# Altium schematic symbol library SCH - MCU - STM32 - ST MICROELECTRONICS STM32L051R(6-8)TX LQFP64.SchLib: 1 symbol
Pins are listed as number, name and electrical type; pins without a type are passive.

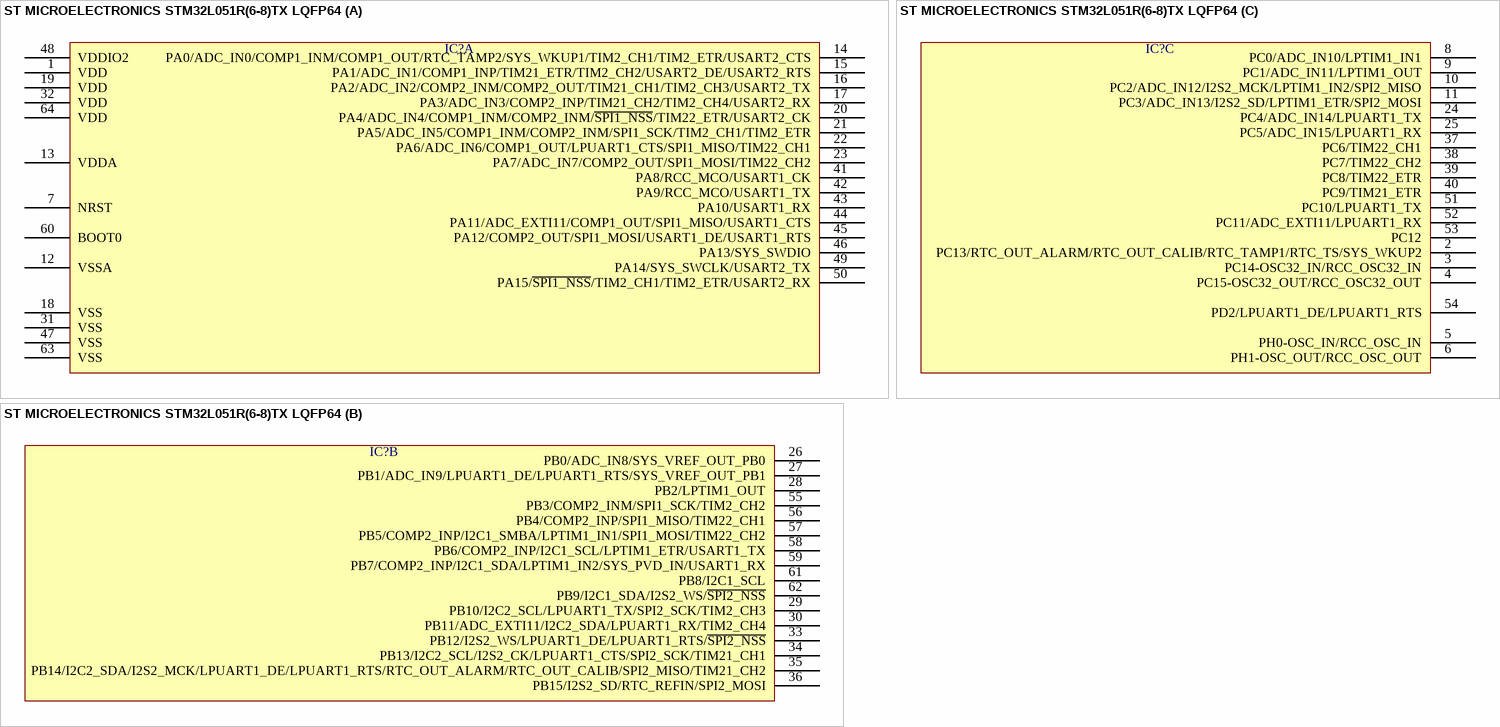
[diagram p0: symbol ST MICROELECTRONICS STM32L051R(6-8)TX LQFP64]

## ST MICROELECTRONICS STM32L051R(6-8)TX LQFP64
designator IC?  (value not drawn)
part A pins: 1 VDD, 7 NRST, 12 VSSA, 13 VDDA, 14 PA0/ADC_IN0/COMP1_INM/COMP1_OUT/RTC_TAMP2/SYS_WKUP1/TIM2_CH1/TIM2_ETR/USART2_CTS, 15 PA1/ADC_IN1/COMP1_INP/TIM21_ETR/TIM2_CH2/USART2_DE/USART2_RTS, 16 PA2/ADC_IN2/COMP2_INM/COMP2_OUT/TIM21_CH1/TIM2_CH3/USART2_TX, 17 PA3/ADC_IN3/COMP2_INP/TIM21_CH2/TIM2_CH4/USART2_RX, 18 VSS, 19 VDD, 20 PA4/ADC_IN4/COMP1_INM/COMP2_INM/~{SPI1_NSS}/TIM22_ETR/USART2_CK, 21 PA5/ADC_IN5/COMP1_INM/COMP2_INM/SPI1_SCK/TIM2_CH1/TIM2_ETR, 22 PA6/ADC_IN6/COMP1_OUT/LPUART1_CTS/SPI1_MISO/TIM22_CH1, 23 PA7/ADC_IN7/COMP2_OUT/SPI1_MOSI/TIM22_CH2, 31 VSS, 32 VDD, 41 PA8/RCC_MCO/USART1_CK, 42 PA9/RCC_MCO/USART1_TX, 43 PA10/USART1_RX, 44 PA11/ADC_EXTI11/COMP1_OUT/SPI1_MISO/USART1_CTS, 45 PA12/COMP2_OUT/SPI1_MOSI/USART1_DE/USART1_RTS, 46 PA13/SYS_SWDIO, 47 VSS, 48 VDDIO2, 49 PA14/SYS_SWCLK/USART2_TX, 50 PA15/~{SPI1_NSS}/TIM2_CH1/TIM2_ETR/USART2_RX, 60 BOOT0, 63 VSS, 64 VDD
part B pins: 26 PB0/ADC_IN8/SYS_VREF_OUT_PB0, 27 PB1/ADC_IN9/LPUART1_DE/LPUART1_RTS/SYS_VREF_OUT_PB1, 28 PB2/LPTIM1_OUT, 29 PB10/I2C2_SCL/LPUART1_TX/SPI2_SCK/TIM2_CH3, 30 PB11/ADC_EXTI11/I2C2_SDA/LPUART1_RX/TIM2_CH4, 33 PB12/I2S2_WS/LPUART1_DE/LPUART1_RTS/~{SPI2_NSS}, 34 PB13/I2C2_SCL/I2S2_CK/LPUART1_CTS/SPI2_SCK/TIM21_CH1, 35 PB14/I2C2_SDA/I2S2_MCK/LPUART1_DE/LPUART1_RTS/RTC_OUT_ALARM/RTC_OUT_CALIB/SPI2_MISO/TIM21_CH2, 36 PB15/I2S2_SD/RTC_REFIN/SPI2_MOSI, 55 PB3/COMP2_INM/SPI1_SCK/TIM2_CH2, 56 PB4/COMP2_INP/SPI1_MISO/TIM22_CH1, 57 PB5/COMP2_INP/I2C1_SMBA/LPTIM1_IN1/SPI1_MOSI/TIM22_CH2, 58 PB6/COMP2_INP/I2C1_SCL/LPTIM1_ETR/USART1_TX, 59 PB7/COMP2_INP/I2C1_SDA/LPTIM1_IN2/SYS_PVD_IN/USART1_RX, 61 PB8/I2C1_SCL, 62 PB9/I2C1_SDA/I2S2_WS/~{SPI2_NSS}
part C pins: 2 PC13/RTC_OUT_ALARM/RTC_OUT_CALIB/RTC_TAMP1/RTC_TS/SYS_WKUP2, 3 PC14-OSC32_IN/RCC_OSC32_IN, 4 PC15-OSC32_OUT/RCC_OSC32_OUT, 5 PH0-OSC_IN/RCC_OSC_IN, 6 PH1-OSC_OUT/RCC_OSC_OUT, 8 PC0/ADC_IN10/LPTIM1_IN1, 9 PC1/ADC_IN11/LPTIM1_OUT, 10 PC2/ADC_IN12/I2S2_MCK/LPTIM1_IN2/SPI2_MISO, 11 PC3/ADC_IN13/I2S2_SD/LPTIM1_ETR/SPI2_MOSI, 24 PC4/ADC_IN14/LPUART1_TX, 25 PC5/ADC_IN15/LPUART1_RX, 37 PC6/TIM22_CH1, 38 PC7/TIM22_CH2, 39 PC8/TIM22_ETR, 40 PC9/TIM21_ETR, 51 PC10/LPUART1_TX, 52 PC11/ADC_EXTI11/LPUART1_RX, 53 PC12, 54 PD2/LPUART1_DE/LPUART1_RTS